# Altium footprint library 88 Fingers.PcbLib: 1 footprints
Each footprint in its own frame and in the unit in brackets; x right, y up, seen from the top. Pads: shape width x height; smd on the part's side, far side on the other; paste and mask are expansions set on the pad; w line width, h text height; cw(c..) or ccw(c..) is an arc to the next point about the centre after c.
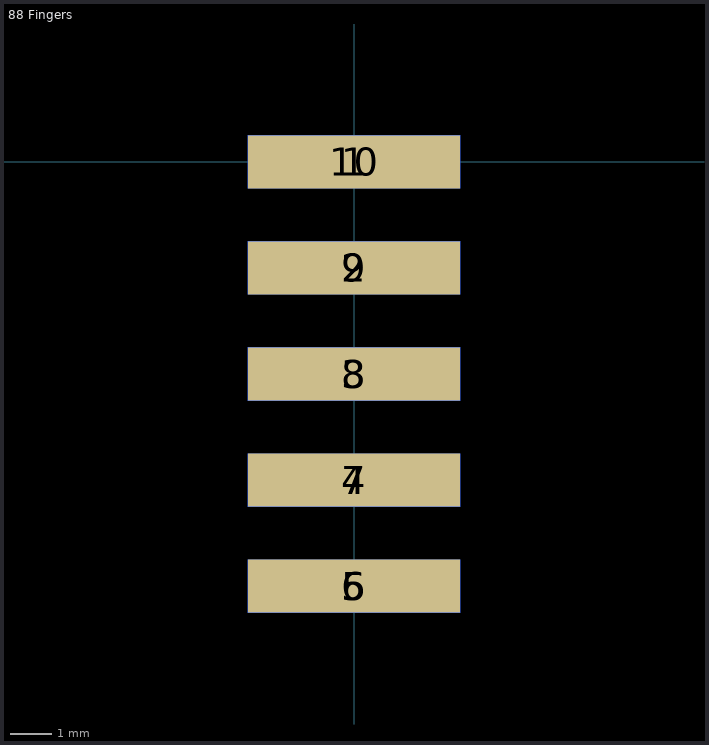
[diagram p0: the footprint, top view; thin cyan lines are the x and y axes]

## 88 Fingers [mil]
pads (10):
  rect 200x50 smd: 1(0,0) 2(0,-100) 3(0,-200) 4(0,-300) 5(0,-400)
  rect 200x50 smd far side: 6(0,-400) 7(0,-300) 8(0,-200) 9(0,-100) 10(0,0)